# Altium schematic symbol library FFC2B28-16-G.SchLib: 1 symbol
Pins are listed as number, name and electrical type; pins without a type are passive.

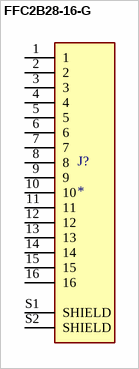
[diagram p0: symbol FFC2B28-16-G]

## FFC2B28-16-G
designator J?
16 Position FFC, FPC Connector Contacts, Top and Bottom 0.020 (0.50mm) Surface Mount, Right Angle; MF: Global Connector Technology; MP: FFC2B28-16-G; SnapEDA_Link: https://www.snapeda.com/parts/FFC2B28-16-G/Global+Connector+Technology/view-part/?ref=snap; Package: None; Value: *; Check_prices: https://www.snapeda.com/parts/FFC2B28-16-G/Global+Connector+Technology/view-part/?ref=eda
footprint GCT_FFC2B28-16-G
pins: 1, 2, 3, 4, 5, 6, 7, 8, 9, 10, 11, 12, 13, 14, 15, 16, S1 SHIELD, S2 SHIELD